# EAGLE library part 74*157 (library F030NG)
Quadruple 2-line to 1-line data SELECTOR/MULTIPLEXER
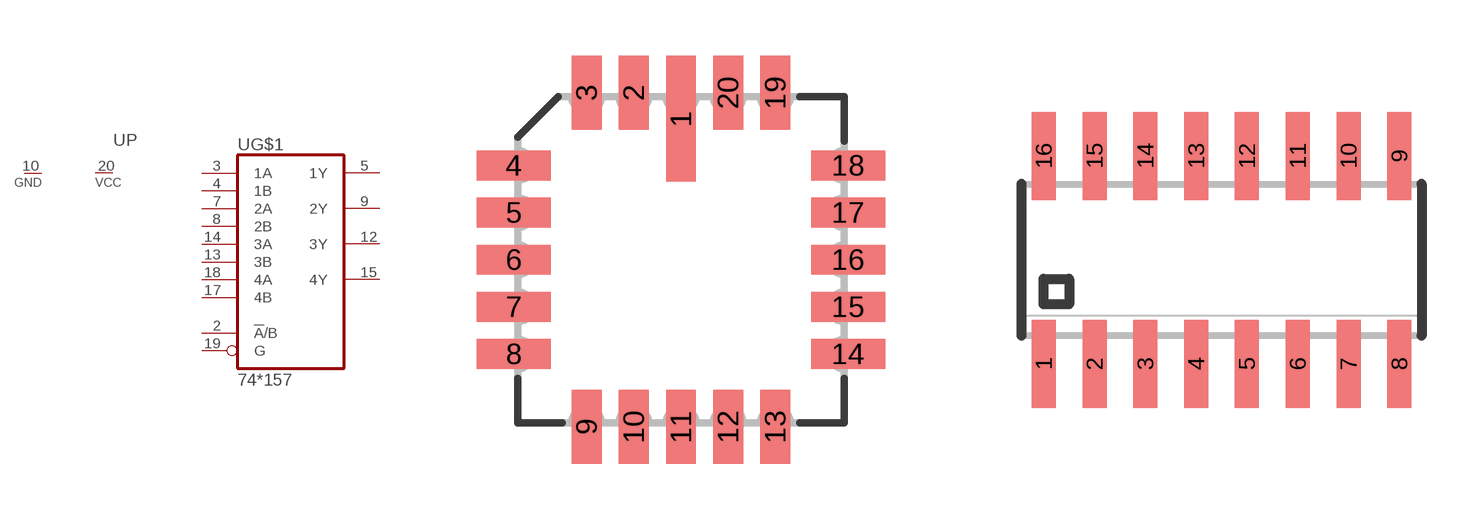
[diagram p59: symbol with the pads of LCC20; footprints LCC20, SO16]

Designator prefix U; gates G$1=74157 P=1VCC_1GND

## 74AC157FK, 74ACT157FK, 74HC157FK, 74HCT157FK, 74LS157FK, 74S157FK  [LCC20]
2  G$1:!A!/B  in
3  G$1:1A  in
4  G$1:1B  in
5  G$1:1Y  out
7  G$1:2A  in
8  G$1:2B  in
9  G$1:2Y  out
10  P:GND  pwr
12  G$1:3Y  out
13  G$1:3B  in
14  G$1:3A  in
15  G$1:4Y  out
17  G$1:4B  in
18  G$1:4A  in
19  G$1:G  in
20  P:VCC  pwr

## 74157D  [SO16]
1  G$1:!A!/B  in
2  G$1:1A  in
3  G$1:1B  in
4  G$1:1Y  out
5  G$1:2A  in
6  G$1:2B  in
7  G$1:2Y  out
8  P:GND  pwr
9  G$1:3Y  out
10  G$1:3B  in
11  G$1:3A  in
12  G$1:4Y  out
13  G$1:4B  in
14  G$1:4A  in
15  G$1:G  in
16  P:VCC  pwr

## 74VHC157FTBJ  [TSSOP16]
Pads as for SO16

## Footprint LCC20 (pad centres in mm)
Leadless Chip Carrier Ceramic Package
smd 0.8 x 3.4: 1 0,3.8
smd 0.8 x 2: 2 -1.27,4.5; 3 -2.54,4.5; 9 -2.54,-4.5; 10 -1.27,-4.5; 11 0,-4.5; 12 1.27,-4.5; 13 2.54,-4.5; 19 2.54,4.5; 20 1.27,4.5
smd 2 x 0.8: 4 -4.5,2.54; 5 -4.5,1.27; 6 -4.5,0; 7 -4.5,-1.27; 8 -4.5,-2.54; 14 4.5,-2.54; 15 4.5,-1.27; 16 4.5,0; 17 4.5,1.27; 18 4.5,2.54

## Footprint SO16 (pad centres in mm)
SMALL OUTLINE INTEGRATED CIRCUIT body 3.9 mm/JEDEC MS-012AA
smd 0.6 x 2.2: 1 -4.445,-2.6; 2 -3.175,-2.6; 3 -1.905,-2.6; 4 -0.635,-2.6; 5 0.635,-2.6; 6 1.905,-2.6; 7 3.175,-2.6; 8 4.445,-2.6; 9 4.445,2.6; 10 3.175,2.6; 11 1.905,2.6; 12 0.635,2.6; 13 -0.635,2.6; 14 -1.905,2.6; 15 -3.175,2.6; 16 -4.445,2.6

## Footprint TSSOP16 (pad centres in mm)
Shrink Small Outline Plastic 16
smd 0.305 x 0.991: 1 -2.275,-2.918; 2 -1.625,-2.918; 3 -0.975,-2.918; 4 -0.325,-2.918; 5 0.325,-2.918; 6 0.975,-2.918; 7 1.625,-2.918; 8 2.275,-2.918; 9 2.275,2.918; 10 1.625,2.918; 11 0.975,2.918; 12 0.325,2.918; 13 -0.325,2.918; 14 -0.975,2.918; 15 -1.625,2.918; 16 -2.275,2.918